# Altium footprint library SIVAGO.PcbLib: 1 footprints
Each footprint in its own frame and in the unit in brackets; x right, y up, seen from the top. Pads: shape width x height; smd on the part's side, far side on the other; paste and mask are expansions set on the pad; w line width, h text height; cw(c..) or ccw(c..) is an arc to the next point about the centre after c.
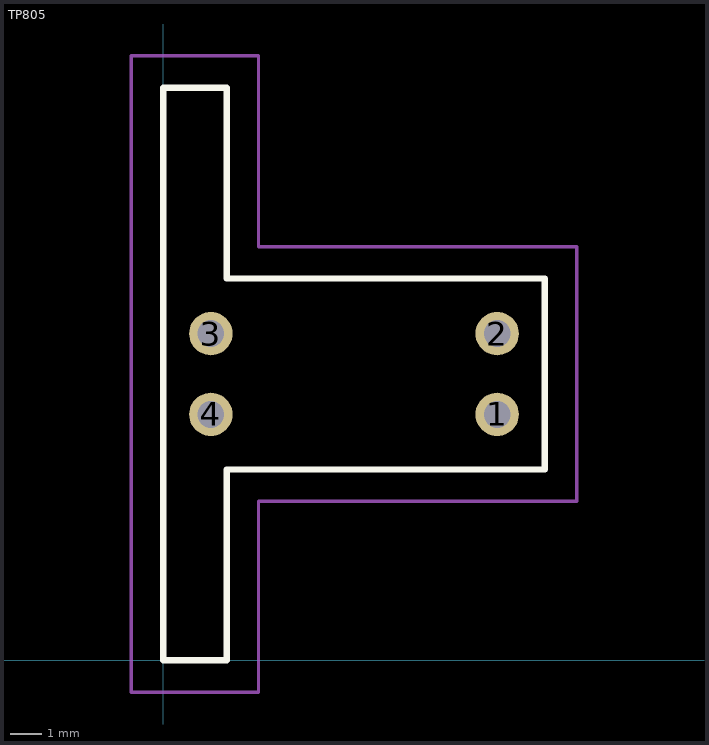
[diagram p0: the footprint, top view; thin cyan lines are the x and y axes]

## TP805 [mm]
pads (4):
  round 1.365 hole 0.84: 1(10.5,7.73) 2(10.5,10.27) 3(1.5,10.27) 4(1.5,7.73)
Top Overlay:
  lines w0.2: 0,0 0,18 2,18 2,12 12,12 12,6 2,6 2,0 0,0
Mechanical 13:
  lines w0.1: 0,0 0,18 2,18 2,12 12,12 12,6 2,6 2,0 0,0
Mechanical 15:
  lines w0.1: -1,-1 -1,19 3,19 3,13 13,13 13,5 3,5 3,-1 -1,-1
3D body "TP805.STEP": height 10.1, standoff -3, extent 0,0 12,18